# Altium integrated library Linear Technology Power Management uModule Regulators.IntLib: 166 symbols (part 67 of 67)
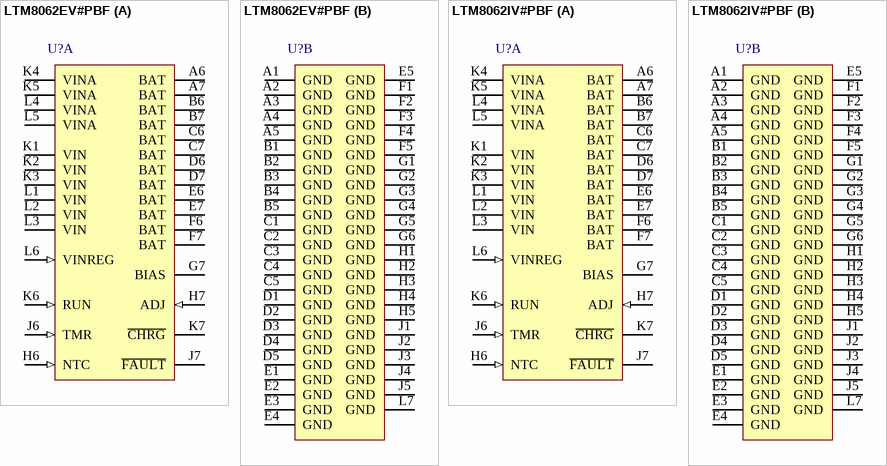
[diagram p93: symbols LTM8062EV#PBF to LTM8062IV#PBF]

## LTM8062IV#PBF
designator U?
32 VIN, 2 A uModule Power Tracking Battery Charger, 77-pin LGA, -40 to 125 degC, Pb-Free, Tray; Manufacturer: Linear Technology; PartNumber: LTM8062IV#PBF; Extended Temp: E, I; Frequency(kHz): 1000; Ishutdown(uA): 15; Isupply(mA): 0.085; Number of Outputs: 1; Output Current(A): 2; Switch Current(A): 3; Synchronous: no; Topology: Buck; Vin Max(V): 32; Vin Min(V): 4.95; Vout Max(V): 14.4; Vout Min(V): 3.3; DatasheetVersion: Rev. C; PackageVersion: Rev. B, 01/2013; PackageReference: LGA-77; PackageDescription: 77-Pin LGA, Body 15 x 9 mm, Pitch 1.27 mm; Supplier 1: Digi-Key; Supplier Part Number 1: LTM8062IV#PBF-ND; Supplier 2: Farnell; Supplier Part Number 2: 1865701; Supplier 3: Newark; Supplier Part Number 3: 21T2063; Packing: Tray; RoHS: TRUE; Tracking: no; Mounting Technology: Surface Mount; ComponentLink1Description: Manufacturer URL; ComponentLink1URL: http://www.linear.com/; ComponentLink2Description: Datasheet; ComponentLink2URL: http://cds.linear.com/docs/en/datasheet/8062fc.pdf; ComponentLink3Description: Package Specification; ComponentLink3URL: http://cds.linear.com/docs/en/packaging/05081856_B_lga77.pdf
footprint LT-LGA-77-05-08-1856_V (LGA, 77-Leads, Body 15x9mm, Pitch 1.27mm)
part A pins: A6 BAT (power) "Battery Charge Current Output Bus. The charge function operates to achieve the final float voltage at this pin. The auto-restart feature initiates a new charging cycle when the voltage at the ADJ pin falls 2.5% below the (See Datasheet)", A7 BAT (power) "Battery Charge Current Output Bus. The charge function operates to achieve the final float voltage at this pin. The auto-restart feature initiates a new charging cycle when the voltage at the ADJ pin falls 2.5% below the (See Datasheet)", B6 BAT (power) "Battery Charge Current Output Bus. The charge function operates to achieve the final float voltage at this pin. The auto-restart feature initiates a new charging cycle when the voltage at the ADJ pin falls 2.5% below the (See Datasheet)", B7 BAT (power) "Battery Charge Current Output Bus. The charge function operates to achieve the final float voltage at this pin. The auto-restart feature initiates a new charging cycle when the voltage at the ADJ pin falls 2.5% below the (See Datasheet)", C6 BAT (power) "Battery Charge Current Output Bus. The charge function operates to achieve the final float voltage at this pin. The auto-restart feature initiates a new charging cycle when the voltage at the ADJ pin falls 2.5% below the (See Datasheet)", C7 BAT (power) "Battery Charge Current Output Bus. The charge function operates to achieve the final float voltage at this pin. The auto-restart feature initiates a new charging cycle when the voltage at the ADJ pin falls 2.5% below the (See Datasheet)", D6 BAT (power) "Battery Charge Current Output Bus. The charge function operates to achieve the final float voltage at this pin. The auto-restart feature initiates a new charging cycle when the voltage at the ADJ pin falls 2.5% below the (See Datasheet)", D7 BAT (power) "Battery Charge Current Output Bus. The charge function operates to achieve the final float voltage at this pin. The auto-restart feature initiates a new charging cycle when the voltage at the ADJ pin falls 2.5% below the (See Datasheet)", E6 BAT (power) "Battery Charge Current Output Bus. The charge function operates to achieve the final float voltage at this pin. The auto-restart feature initiates a new charging cycle when the voltage at the ADJ pin falls 2.5% below the (See Datasheet)", E7 BAT (power) "Battery Charge Current Output Bus. The charge function operates to achieve the final float voltage at this pin. The auto-restart feature initiates a new charging cycle when the voltage at the ADJ pin falls 2.5% below the (See Datasheet)", F6 BAT (power) "Battery Charge Current Output Bus. The charge function operates to achieve the final float voltage at this pin. The auto-restart feature initiates a new charging cycle when the voltage at the ADJ pin falls 2.5% below the (See Datasheet)", F7 BAT (power) "Battery Charge Current Output Bus. The charge function operates to achieve the final float voltage at this pin. The auto-restart feature initiates a new charging cycle when the voltage at the ADJ pin falls 2.5% below the (See Datasheet)", G7 BIAS (power) "The BIAS pin connects to the internal power bus. In most cases connect to VBAT. If this is not desirable, connect to a power source greater than 2.8V and less than 10V.", H6 NTC (in) "Battery Temperature Monitor Pin. This pin is the input to the NTC (negative temperature coefficient) thermistor temperature monitoring circuit. This function is enabled by connecting a 10kohm, B = 3380 NTC thermistor from (See Datasheet)", H7 ADJ (in) "Battery Float Voltage Feedback Input. The charge function operates to achieve a final float voltage of 3.3V on this pin. The output battery float voltage (VBAT(FLT)) is programmed using a resistor divider. VBAT(FLT) can be (See Datasheet)", J6 TMR (in) "End-Of-Cycle Timer Programming Pin. If a timer-based charge termination is desired, connect a capacitor from this pin to ground. A 0.68uF capacitor is often used, which generates a timer EOC at three hours, and a (See Datasheet)", J7 ~{FAULT} (hiz) "Open-Collector F\A\U\L\T\ Status Output; typically pulled up through a resistor to a reference voltage. This status pin can be pulled up to voltages as high as VIN and can sink currents up to 10mA. This pin indicates charge (See Datasheet)", K1 VIN (power) "Charger Input Supply. Decouple with at least 4.7uF to GND. Connect the input power here if no input reverse voltage protection is needed.", K2 VIN (power) "Charger Input Supply. Decouple with at least 4.7uF to GND. Connect the input power here if no input reverse voltage protection is needed.", K3 VIN (power) "Charger Input Supply. Decouple with at least 4.7uF to GND. Connect the input power here if no input reverse voltage protection is needed.", K4 VINA (power) "Anode of input reverse protection Schottky diode. Connect the input power here if input reverse voltage protection is desired.", K5 VINA (power) "Anode of input reverse protection Schottky diode. Connect the input power here if input reverse voltage protection is desired.", K6 RUN (in) "Precision Threshold Enable Input Pin. The RUN threshold is 1.25V (rising), with 120mV of input hysteresis. When in shutdown mode, all charging functions are disabled. The precision threshold allows use of the RUN pin to (See Datasheet)", K7 ~{CHRG} (hiz) "Open-Collector Charger Status Output; typically pulled up through a resistor to a reference voltage. This status pin can be pulled up to voltages as high as VIN and can sink currents up to 10mA. During a battery charging (See Datasheet)", L1 VIN (power) "Charger Input Supply. Decouple with at least 4.7uF to GND. Connect the input power here if no input reverse voltage protection is needed.", L2 VIN (power) "Charger Input Supply. Decouple with at least 4.7uF to GND. Connect the input power here if no input reverse voltage protection is needed.", L3 VIN (power) "Charger Input Supply. Decouple with at least 4.7uF to GND. Connect the input power here if no input reverse voltage protection is needed.", L4 VINA (power) "Anode of input reverse protection Schottky diode. Connect the input power here if input reverse voltage protection is desired.", L5 VINA (power) "Anode of input reverse protection Schottky diode. Connect the input power here if input reverse voltage protection is desired.", L6 VINREG (in) "Input Voltage Regulation Reference. The maximum charge current is reduced when this pin is below 2.7V. There is a 100k resistor to GND. Connecting a resistor from VIN to this pin sets the minimum operational VIN voltage. (See Datasheet)"
part B pins: A1 GND (power) "Power and Signal Ground Return", A2 GND (power) "Power and Signal Ground Return", A3 GND (power) "Power and Signal Ground Return", A4 GND (power) "Power and Signal Ground Return", A5 GND (power) "Power and Signal Ground Return", B1 GND (power) "Power and Signal Ground Return", B2 GND (power) "Power and Signal Ground Return", B3 GND (power) "Power and Signal Ground Return", B4 GND (power) "Power and Signal Ground Return", B5 GND (power) "Power and Signal Ground Return", C1 GND (power) "Power and Signal Ground Return", C2 GND (power) "Power and Signal Ground Return", C3 GND (power) "Power and Signal Ground Return", C4 GND (power) "Power and Signal Ground Return", C5 GND (power) "Power and Signal Ground Return", D1 GND (power) "Power and Signal Ground Return", D2 GND (power) "Power and Signal Ground Return", D3 GND (power) "Power and Signal Ground Return", D4 GND (power) "Power and Signal Ground Return", D5 GND (power) "Power and Signal Ground Return", E1 GND (power) "Power and Signal Ground Return", E2 GND (power) "Power and Signal Ground Return", E3 GND (power) "Power and Signal Ground Return", E4 GND (power) "Power and Signal Ground Return", E5 GND (power) "Power and Signal Ground Return", F1 GND (power) "Power and Signal Ground Return", F2 GND (power) "Power and Signal Ground Return", F3 GND (power) "Power and Signal Ground Return", F4 GND (power) "Power and Signal Ground Return", F5 GND (power) "Power and Signal Ground Return", G1 GND (power) "Power and Signal Ground Return", G2 GND (power) "Power and Signal Ground Return", G3 GND (power) "Power and Signal Ground Return", G4 GND (power) "Power and Signal Ground Return", G5 GND (power) "Power and Signal Ground Return", G6 GND (power) "Power and Signal Ground Return", H1 GND (power) "Power and Signal Ground Return", H2 GND (power) "Power and Signal Ground Return", H3 GND (power) "Power and Signal Ground Return", H4 GND (power) "Power and Signal Ground Return", H5 GND (power) "Power and Signal Ground Return", J1 GND (power) "Power and Signal Ground Return", J2 GND (power) "Power and Signal Ground Return", J3 GND (power) "Power and Signal Ground Return", J4 GND (power) "Power and Signal Ground Return", J5 GND (power) "Power and Signal Ground Return", L7 GND (power) "Power and Signal Ground Return"